# Altium footprint library mva_Package.PcbLib: 1 footprints
Each footprint in its own frame and in the unit in brackets; x right, y up, seen from the top. Pads: shape width x height; smd on the part's side, far side on the other; paste and mask are expansions set on the pad; w line width, h text height; cw(c..) or ccw(c..) is an arc to the next point about the centre after c.
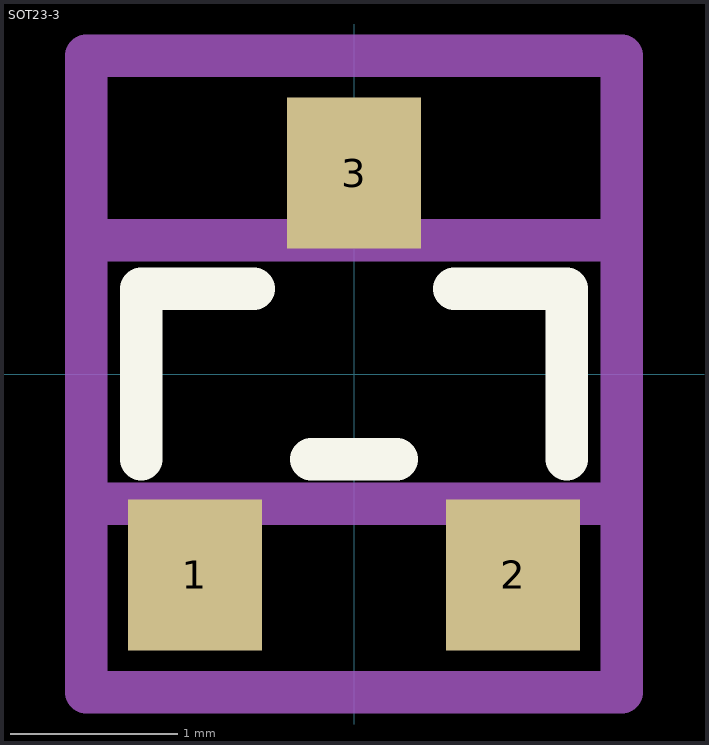
[diagram p0: the footprint, top view; thin cyan lines are the x and y axes]

## SOT23-3 [mm]
pads (3):
  rect 0.8x0.9 smd: 1(-0.95,-1.2) 2(0.95,-1.2) 3(0,1.2)
Top Overlay:
  lines w0.254: -1.27,-0.508 -1.27,0.508 -0.6,0.508 ; -0.254,-0.508 0.254,-0.508 ; 0.6,0.508 1.27,0.508 1.27,-0.508
Mechanical 13:
  lines w0.254: -1.6,-0.775 -1.6,0.8 1.6,0.8 1.6,-0.775 -1.6,-0.775
Mechanical 15:
  lines w0.254: -1.6,-1.9 -1.6,0.7 -1.6,1.9 1.6,1.9 1.6,-1.9 -1.6,-1.9
3D body "sot23-3_p0-95_l3-04_w1-4.stp": height 1.04, standoff 0, extent -1.52,-1.32 1.52,1.32